# Altium footprint library CON_RJ25.PcbLib: 1 footprints
Each footprint in its own frame and in the unit in brackets; x right, y up, seen from the top. Pads: shape width x height; smd on the part's side, far side on the other; paste and mask are expansions set on the pad; w line width, h text height; cw(c..) or ccw(c..) is an arc to the next point about the centre after c.
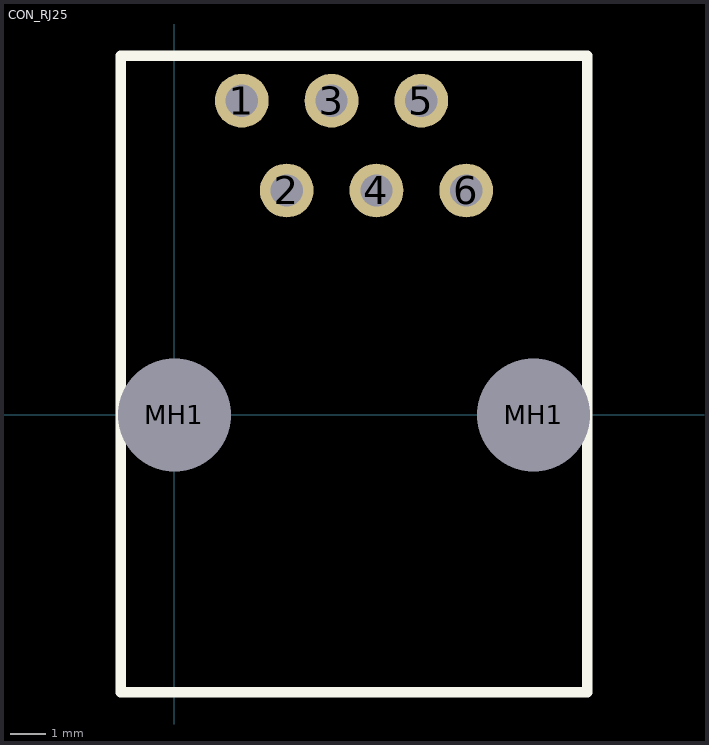
[diagram p0: the footprint, top view; thin cyan lines are the x and y axes]

## CON_RJ25 [mil]
pads (8):
  round 60 hole 36: 1(75,350) 2(125,250) 3(175,350) 4(225,250) 5(275,350) 6(325,250)
  round 70 hole 126: MH1(0,0) MH1(400,0)
Top Overlay:
  lines w12: -60,-309 460,-309 460,400 -60,400 -60,-309
Mechanical 4:
  text "0.175" at 0,0 h1
3D body: height 460, standoff 0, extent -60,-310 460,400